# Altium footprint library CRYSTAL.PcbLib: 2 footprints
Each footprint in its own frame and in the unit in brackets; x right, y up, seen from the top. Pads: shape width x height; smd on the part's side, far side on the other; paste and mask are expansions set on the pad; w line width, h text height; cw(c..) or ccw(c..) is an arc to the next point about the centre after c.
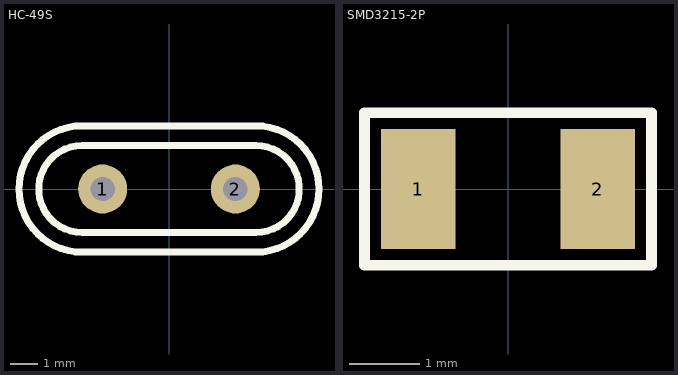
[diagram p0: the footprints below, top view; thin cyan lines are the x and y axes]

## HC-49S [mm]
pads (2):
  round 1.8 hole 0.9 paste+0 mask+0.051: 1(-2.44,0) 2(2.44,0)
Top Overlay:
  lines w0.258: -3.2,-2.325 3.2,-2.325 ccw(c3.192,0) 3.2,2.324 ; -3.2,-2.324 cw(c-3.193,0) -3.2,2.325 3.2,2.325 ; -3.2,-1.6 cw(c-3.194,0) -3.2,1.6 3.2,1.6 cw(c3.194,0) 3.2,-1.6 -3.2,-1.6
Mechanical 15:
  lines w0.003: 1.46,0.127 1.461,0.127
3D body "CRYSTAL_HC49S_MTC.step": height 3.99, standoff -3.99, extent -5.832,-2.668 5.832,2.668

## SMD3215-2P [mm]
pads (2):
  rect 1.05x1.7 smd paste+0 mask+0.051: 1(-1.27,0) 2(1.27,0)
Top Overlay:
  lines w0.152: -2.029,-1.079 -2.029,1.079 2.029,1.079 2.029,-1.079 -2.029,-1.079
Mechanical 15:
  lines w0.003: 1.46,0.127 1.461,0.127
3D body "XTAL_NX3215SA_NDK.step": height 0.89, standoff 0, extent -1.651,-0.8 1.651,0.8